# Altium footprint library TG21_TX_Xu ly ma tran phim.PcbLib: 23 footprints (part 1 of 2)
Each footprint in its own frame and in the unit in brackets; x right, y up, seen from the top. Pads: shape width x height; smd on the part's side, far side on the other; paste and mask are expansions set on the pad; w line width, h text height; cw(c..) or ccw(c..) is an arc to the next point about the centre after c.
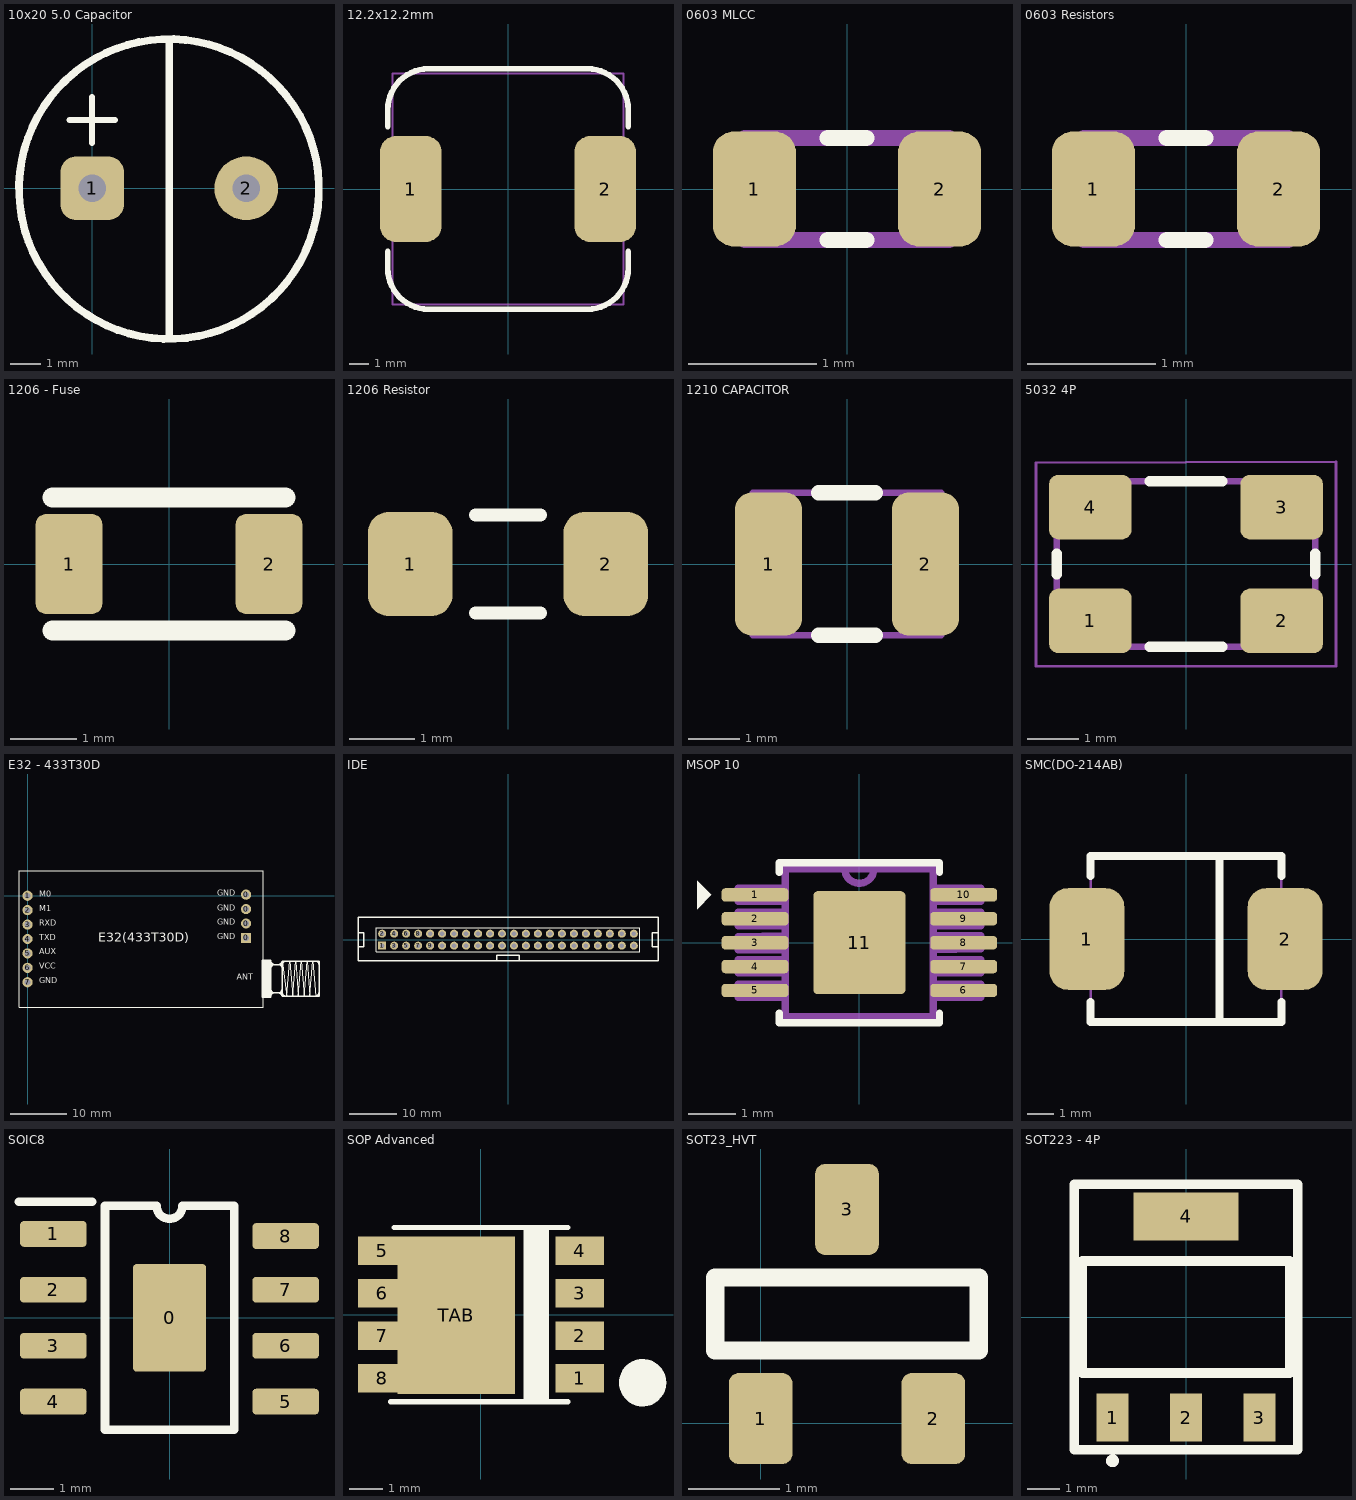
[diagram p0: the footprints below, top view; thin cyan lines are the x and y axes]

## 10x20 5.0 Capacitor [mm]
pads (2):
  rrect50% 2.1x2.1 hole 0.9: 1(0,0)
  round 2.1 hole 0.9: 2(5.08,0)
Top Overlay:
  lines w0.2: -0.75,2.25 0.75,2.25 ; 0,1.5 0,3
  lines w0.254: 2.54,-4.953 2.54,4.826 ; 6.131,3.365 ccw(c2.532,-0.022) 6.163,3.33
3D body "User Library-Capacitor Radial Electrolitic 500-1000x2000.step": height 20.01, standoff -2.7, extent -2.46,-5 7.507,5

## 12.2x12.2mm [mm]
pads (2):
  rrect50% 3.2x5.5 smd: 1(-5.05,0) 2(5.05,0)
Top Overlay:
  lines w0.3: -6.25,-3.25 -6.25,-4.134 ccw(c-4.134,-4.134) -4.134,-6.25 4.134,-6.25 ccw(c4.134,-4.134) 6.25,-4.134 6.25,-3.25 ; -6.25,3.25 -6.25,4.134 cw(c-4.134,4.134) -4.134,6.25 4.134,6.25 cw(c4.134,4.134) 6.25,4.134 6.25,3.25
Mechanical 13:
  lines w0.1: -6,-6 6,-6 6,6 -6,6 -6,-6
3D body "CDRH127_470M.step": height 7.42, standoff 0.01, extent -6,-6 6,6

## 0603 MLCC [mm]
pads (2):
  rrect50% 0.65x0.9 smd paste+0 mask+0.102: 1(-0.725,0) 2(0.725,0)
Top Overlay:
  lines w0.127: -0.15,-0.4 0.15,-0.4 ; -0.15,0.4 0.15,0.4
Mechanical 13:
  lines w0.127: -0.8,-0.4 0.8,-0.4 0.8,0.4 -0.8,0.4 -0.8,-0.4
3D body "step_temp.STEP": height 0.87, standoff 0, extent -0.8,-0.4 0.8,0.4

## 0603 Resistors [mm]
pads (2):
  rrect50% 0.65x0.9 smd paste+0 mask+0.102: 1(-0.725,0) 2(0.725,0)
Top Overlay:
  lines w0.127: -0.15,-0.4 0.15,-0.4 ; -0.15,0.4 0.15,0.4
Mechanical 13:
  lines w0.127: -0.8,-0.4 -0.8,0.4 0.8,0.4 0.8,-0.4 -0.8,-0.4
3D body "step_temp.STEP": height 0.45, standoff 0, extent -0.8,-0.4 0.8,0.4

## 1206 - Fuse [mm]
pads (2):
  rrect30% 1x1.5 smd: 1(-1.5,0) 2(1.5,0)
Top Overlay:
  lines w0.3: -1.75,-1 1.75,-1 ; -1.75,1 1.75,1
3D body "0ZCJ0075AF2E.step": height 0.8, standoff 0, extent -1.7,-0.85 1.7,0.85

## 1206 Resistor [mm]
pads (2):
  rrect50% 1.3x1.6 smd: 1(-1.5,0) 2(1.5,0)
Top Overlay:
  lines w0.2: -0.5,-0.75 0.5,-0.75 ; -0.5,0.75 0.5,0.75
3D body "Resistor SMD 1206.step": height 0.6, standoff 0, extent -1.6,-0.8 1.6,0.8

## 1210 CAPACITOR [mm]
pads (2):
  rrect50% 1.32x2.81 smd paste+0 mask+0.102: 1(-1.542,0) 2(1.542,0)
Top Overlay:
  lines w0.3: -0.56,-1.4 0.56,-1.4 ; -0.56,1.4 0.56,1.4
Mechanical 13:
  lines w0.127: -1.85,-1.4 1.85,-1.4 1.85,1.4 -1.85,1.4 -1.85,-1.4
3D body "step_temp.STEP": height 2.79, standoff 0, extent -1.65,-1.25 1.65,1.25

## 5032 4P [mm]
pads (4):
  rrect30% 1.6x1.25 smd: 1(-1.85,-1.1) 2(1.85,-1.1) 3(1.85,1.1) 4(-1.85,1.1)
Top Overlay:
  lines w0.2: -2.5,-0.2 -2.5,0.2 ; -0.7,-1.6 0.7,-1.6 ; -0.7,1.6 0.7,1.6 ; 2.5,-0.2 2.5,0.2
Mechanical 13:
  lines w0.127: -2.5,-1.6 2.5,-1.6 2.5,1.6 -2.5,1.6 -2.5,-1.6
Mechanical 15:
  lines w0.05: -2.9,-1.975 2.9,-1.975 2.9,1.975 -2.9,1.96 -2.9,-1.975
3D body "step_temp.STEP": height 0.85, standoff 0, extent -2.5,-1.6 2.5,1.6

## E32 - 433T30D [mm]
pads (11):
  rect 1.8x1.8 hole 1: 0(38.5,-7.43)
  round 1.8 hole 1: 0(38.5,-4.89) 0(38.5,-2.35) 0(38.5,0.19) 1(0,0) 2(0,-2.54) 3(0,-5.08) 4(0,-7.62) 5(0,-10.16) 6(0,-12.7) 7(0,-15.24)
Top Overlay:
  rectangle: 41.35,-17.865 42.85,-11.365
  rectangle: 41.35,-17.87 42.85,-11.37
  lines w0.1: 45.7,-17.72 44.85,-11.52 45.7,-17.72 ; 45.7,-17.72 46.22,-11.52 ; 45.7,-17.72 46.22,-11.52 ; 46.22,-11.52 46.73,-17.72 ; 46.22,-11.52 46.73,-17.72 ; 46.73,-17.72 47.24,-11.52 ; 46.73,-17.72 47.24,-11.52 ; 47.24,-11.52 47.72,-17.72 ; 47.24,-11.52 47.72,-17.72 ; 47.72,-17.72 48.24,-11.52 ; 47.72,-17.72 48.24,-11.52 ; 48.24,-11.52 48.75,-17.72 ; 48.24,-11.52 48.75,-17.72 ; 48.75,-17.72 49.24,-11.52 ; 48.75,-17.72 49.24,-11.52 ; 49.24,-11.52 49.76,-17.72 ; 49.24,-11.52 49.76,-17.72 ; 49.76,-17.72 50.28,-11.52 ; 49.76,-17.72 50.28,-11.52 ; 50.28,-11.52 50.79,-17.72 50.28,-11.52 ; -1.5,-19.62 -1.5,4.38 41.5,4.38 41.5,-19.62 -1.5,-19.62
  lines w0.254: 41.35,-17.87 41.35,-11.37 ; 41.35,-17.87 42.85,-17.87 ; 41.35,-17.87 41.35,-11.37 ; 41.35,-17.87 42.85,-17.87 ; 41.35,-11.37 42.85,-11.37 ; 41.35,-11.37 42.85,-11.37 ; 42.85,-17.87 42.85,-11.37 ; 42.85,-17.87 42.85,-11.37 ; 42.85,-16.47 ccw(c43.5,-16.47) 43.5,-17.12 ; 42.85,-16.47 ccw(c43.5,-16.47) 43.5,-17.12 ; 42.85,-16.47 42.85,-16.1 42.85,-16.47 ; 42.85,-12.82 cw(c43.55,-12.82) 43.55,-12.12 ; 42.85,-12.82 cw(c43.55,-12.82) 43.55,-12.12 ; 42.85,-12.82 42.85,-13.74 42.85,-12.82 ; 42.85,-11.49 ccw(c43.48,-11.49) 43.48,-12.12 ; 42.85,-11.49 ccw(c43.48,-11.49) 43.48,-12.12 ; 42.85,-11.49 42.85,-11.37 ; 42.85,-11.49 42.85,-11.37 ; 43.4,-17.12 ccw(c43.4,-17.67) 42.85,-17.67 cw(c43.4,-17.67) 43.4,-17.12 ; 43.4,-17.12 44.25,-17.12 ; 43.4,-17.12 44.25,-17.12 ; 43.48,-12.12 44.25,-12.12 ; 43.48,-12.12 44.25,-12.12 ; 43.5,-17.12 44.22,-17.12 ; 43.5,-17.12 44.22,-17.12 ; 43.55,-12.12 44.25,-12.12 ; 43.55,-12.12 44.25,-12.12 ; 44.22,-17.12 ccw(c44.22,-16.49) 44.85,-16.49 cw(c44.22,-16.49) 44.22,-17.12 ; 44.25,-17.12 cw(c44.25,-17.72) 44.85,-17.72 ; 44.25,-17.12 cw(c44.25,-17.72) 44.85,-17.72 ; 44.25,-12.12 ccw(c44.25,-11.52) 44.85,-11.52 ; 44.25,-12.12 cw(c44.25,-12.72) 44.85,-12.72 ccw(c44.25,-12.72) 44.25,-12.12 ; 44.25,-12.12 ccw(c44.25,-11.52) 44.85,-11.52 ; 44.85,-17.72 51.35,-17.72 ; 44.85,-17.72 44.85,-11.52 ; 44.85,-17.72 51.35,-17.72 ; 44.85,-17.72 44.85,-11.52 ; 44.85,-11.52 51.35,-11.52 ; 44.85,-11.52 51.35,-11.52 ; 45.53,-17.72 cw(c45.53,-17.04) 44.85,-17.04 ccw(c45.53,-17.04) 45.53,-17.72 ; 45.53,-17.72 45.68,-17.72 45.53,-17.72 ; 50.73,-17.72 ccw(c50.73,-17.1) 51.35,-17.1 cw(c50.73,-17.1) 50.73,-17.72 ; 50.73,-17.72 50.5,-17.72 50.73,-17.72 ; 50.81,-11.52 cw(c50.81,-12.06) 51.35,-12.06 ccw(c50.81,-12.06) 50.81,-11.52 ; 50.81,-11.52 50.41,-11.52 50.81,-11.52 ; 51.35,-17.72 51.35,-11.52 ; 51.35,-17.72 51.35,-11.52 ; 42.68,-17.12 44.85,-17.12 42.68,-17.12 ; 42.85,-12.12 44.85,-12.12 42.85,-12.12 ; 44.85,-12.13 cw(c45.46,-12.13) 45.46,-11.52 ccw(c45.46,-12.13) 44.85,-12.13
  text "GND" at 33.457,-8.001 h1.8
  text "GND" at 33.457,-0.381 h1.8
  text "GND" at 33.426,-3.016 h1.8
  text "GND" at 33.426,-5.429 h1.8
  text "GND" at 2.063,-15.78 h1.8
  text "VCC" at 2.063,-13.24 h1.8
  text "AUX" at 2.063,-10.7 h1.8
  text "TXD" at 2.063,-8.16 h1.8
  text "RXD" at 2.063,-5.62 h1.8
  text "M1" at 2.063,-3.08 h1.8
  text "M0" at 2.063,-0.54 h1.8
  text "ANT" at 36.83,-15.19 h1.8
  text "E32(433T30D)" at 12.446,-8.763 h2.8
3D body "EbyteE32900T30D.step": height 8.37, standoff -5.34, extent -1.524,-19.62 54.176,4.38

## IDE [mm]
pads (44):
  rect 1.7x1.7 hole 1: 1(-26.67,-1.27)
  round 1.7 hole 1: 2(-26.67,1.27) 3(-24.13,-1.27) 4(-24.13,1.27) 5(-21.59,-1.27) 6(-21.59,1.27) 7(-19.05,-1.27) 8(-19.05,1.27) 9(-16.51,-1.27) 10(-16.51,1.27) 11(-13.97,-1.27) 12(-13.97,1.27) 13(-11.43,-1.27) 14(-11.43,1.27) 15(-8.89,-1.27) 16(-8.89,1.27) 17(-6.35,-1.27) 18(-6.35,1.27) 19(-3.81,-1.27) 20(-3.81,1.27) 21(-1.27,-1.27) 22(-1.27,1.27) 23(1.27,-1.27) 24(1.27,1.27) 25(3.81,-1.27) 26(3.81,1.27) 27(6.35,-1.27) 28(6.35,1.27) 29(8.89,-1.27) 30(8.89,1.27) 31(11.43,-1.27) 32(11.43,1.27) 33(13.97,-1.27) 34(13.97,1.27) 35(16.51,-1.27) 36(16.51,1.27) 37(19.05,-1.27) 38(19.05,1.27) 39(21.59,-1.27) 40(21.59,1.27) 41(24.13,-1.27) 42(24.13,1.27) 43(26.67,-1.27) 44(26.67,1.27)
Top Overlay:
  lines w0.2: -27.94,-2.54 -27.94,2.54 27.94,2.54 27.94,-2.54 -27.94,-2.54
  lines w0.3: -31.8,-1.5 -30.6,-1.5 -30.6,1.5 -31.8,1.5 ; -2.4,-4.5 -2.4,-3.3 2.4,-3.3 2.4,-4.5 ; 31.8,-1.5 30.6,-1.5 30.6,1.5 31.8,1.5 ; -31.8,-4.5 31.8,-4.5 31.8,4.8 -31.8,4.8 -31.8,-4.5
3D body "User Library-BH_44_V.STEP": height 8.9, standoff -3.2, extent -31.75,-4.45 31.75,4.65

## MSOP 10 [mil]
pads (11):
  rrect50% 55x11 smd paste+0 mask+4.02: 1(-86,39.4) 2(-86,19.7) 3(-86,0) 4(-86,-19.7) 5(-86,-39.4) 6(86,-39.4) 7(86,-19.7) 8(86,0) 9(86,19.7) 10(86,39.4)
  rrect10% 76x85 smd paste+0 mask+4.02: 11(0,0)
Top Overlay:
  region: -133.86,51.18 -122.05,39.37 -133.86,27.56
  lines w6: -66,-58 -66,-66 66,-66 66,-58 ; -66,58 -66,66 66,66 66,58
Mechanical 13:
  lines w6: -12,61 ccw(c0,61) 12,61 ; -12,61 12,61 ; -12,61 -61,61 -61,-61 61,-61 61,61 12,61 ; -100,-45 -100,-34 -61,-34 -61,-45 -100,-45 ; -100,-25 -100,-14 -61,-14 -61,-25 -100,-25 ; -100,-6 -100,5 -61,6 -61,-6 -100,-6 ; -100,14 -100,25 -61,25 -61,14 -100,14 ; -100,34 -100,45 -61,45 -61,34 -100,34 ; 61,-45 61,-34 100,-34 100,-45 61,-45 ; 61,-25 61,-14 100,-14 100,-25 61,-25 ; 61,-6 61,6 100,6 100,-5 61,-6 ; 61,14 61,25 100,25 100,14 61,14 ; 61,34 61,45 100,45 100,34 61,34
3D body "step_temp.STEP": height 43.31, standoff 0, extent -96.46,-59.06 96.46,59.06

## SMC(DO-214AB) [mm]
pads (2):
  rrect50% 2.8x3.8 smd: 1(-3.7,0) 2(3.7,0)
Top Overlay:
  lines w0.3: -3.561,-2.355 -3.561,-3.105 3.561,-3.105 3.561,-2.355 ; -3.561,2.355 -3.561,3.105 3.561,3.105 3.561,2.355 ; 1.25,-3 1.25,3
Mechanical 13:
  region: 3.561,1.092 4.094,1.092 4.094,-1.092 3.561,-1.092
  region: -4.094,1.092 -3.561,1.092 -3.561,-1.092 -4.094,-1.092
  lines w0.102: -3.561,-3.105 -3.561,3.105 ; 3.561,-3.105 3.561,3.105
3D body "step_temp.STEP": height 2.5, standoff 0, extent -3.97,-2.953 3.97,2.953

## SOIC8 [mm]
pads (9):
  rrect10% 1.7x2.5 smd: 0(0,0)
  rrect30% 1.55x0.6 smd: 1(-2.7,1.95) 2(-2.7,0.65) 3(-2.7,-0.65) 4(-2.7,-1.95) 5(2.7,-1.95) 6(2.7,-0.65) 7(2.7,0.65) 8(2.7,1.9)
Top Overlay:
  lines w0.2: -3.5,2.7 -1.8,2.7 ; -1.5,-2.6 1.5,-2.6 1.5,2.6 0.3,2.6 cw(c0,2.6) -0.3,2.6 -1.5,2.6 -1.5,-2.6
3D body "SOIC-8.step": height 1.5, standoff -0.01, extent -3,-2.4 3,2.5

## SOP Advanced [mm]
pads (9):
  rect 1.45x0.85 smd: 1(2.944,-1.905) 2(2.944,-0.635) 3(2.944,0.635) 4(2.944,1.905) 5(-2.944,1.905) 6(-2.944,0.635) 7(-2.944,-0.635) 8(-2.944,-1.905)
  rect 3.505x4.7 smd: TAB(-0.738,-0.016)
Top Overlay:
  circle w0.5: c4.826,-2.032 r0.458
  region: 2.032,2.667 1.27,2.667 1.27,-2.54 2.032,-2.54
  region: 4.826,-1.574 4.917,-1.574 5.085,-1.644 5.214,-1.773 5.284,-1.941 5.284,-2.032 5.284,-2.123 5.214,-2.291 5.085,-2.42 4.917,-2.49 4.826,-2.49 4.735,-2.49 4.567,-2.42 4.438,-2.291 4.368,-2.123 4.368,-2.032 4.368,-1.941 4.438,-1.773 4.567,-1.644 4.735,-1.574
  lines w0.152: -2.7,-2.6 2.6,-2.6 ; -2.6,2.6 2.6,2.6
Top Paste:
  region: -2.465,1.856 -0.862,1.856 -0.862,0.752 -2.465,0.752
  region: -2.465,0.552 -0.862,0.552 -0.862,-0.552 -2.465,-0.552
  region: -2.465,-0.752 -0.862,-0.752 -0.862,-1.856 -2.465,-1.856
  region: -0.662,1.856 0.941,1.856 0.941,0.752 -0.662,0.752
  region: -0.662,0.552 0.941,0.552 0.941,-0.552 -0.662,-0.552
  region: -0.662,-0.752 0.941,-0.752 0.941,-1.856 -0.662,-1.856
3D body "step_temp.STEP": height 1, standoff 0, extent -3.048,-2.65 2.952,2.65

## SOT23_HVT [mm]
pads (3):
  rrect30% 0.7x1 smd: 1(0,0.05) 2(1.9,0.05) 3(0.95,2.35)
Top Overlay:
  lines w0.2: -0.5,0.8 2.4,0.8 2.4,1.6 -0.5,1.6 -0.5,0.8
3D body "SOT23.STEP": height 1, standoff 0, extent -0.5,0 2.4,2.4

## SOT223 - 4P [mil]
pads (4):
  rect 39x59 smd: 1(-90.55,-124) 2(0,-124) 3(90.55,-124)
  rect 129x59 smd: 4(0,124)
Top Overlay:
  circle w7.87: c-90.55,-177.17 r3.94
  lines w11.81: -137.89,-163.34 -137.89,163.34 137.89,163.34 137.89,-163.34 -137.89,-163.34 ; -128.05,-69 128.05,-69 128.05,69 -128.05,69 -128.05,-69
Mechanical 13:
  circle w7.87: c-90.55,-177.17 r3.94
  lines w5: -128.05,-69 128.05,-69 128.05,69 -128.05,69 -128.05,-69
3D body "step_temp.STEP": height 71, standoff 0, extent -128,-137.75 128,137.75